# Altium footprint library PCB1.PcbLib: 43 footprints (part 1 of 3)
Each footprint in its own frame and in the unit in brackets; x right, y up, seen from the top. Pads: shape width x height; smd on the part's side, far side on the other; paste and mask are expansions set on the pad; w line width, h text height; cw(c..) or ccw(c..) is an arc to the next point about the centre after c.
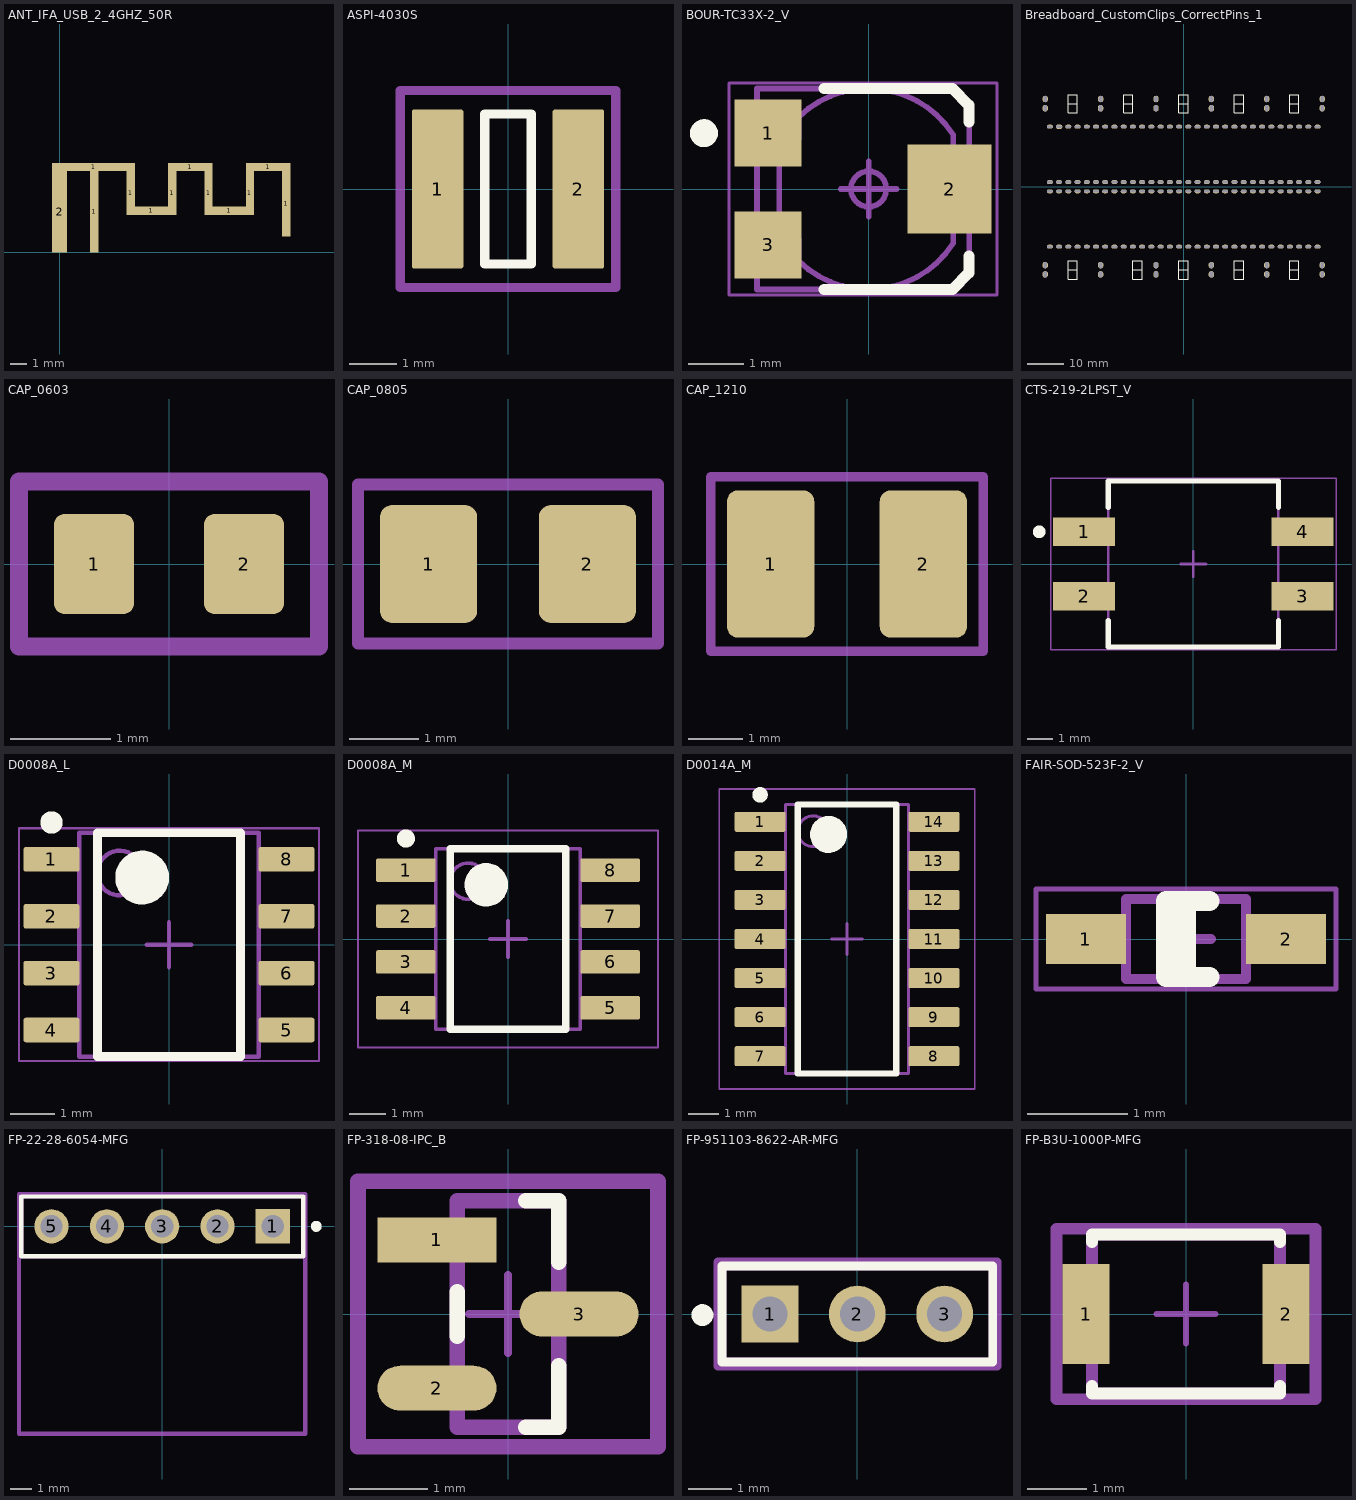
[diagram p0: the footprints below, top view; thin cyan lines are the x and y axes]

## ANT_IFA_USB_2_4GHZ_50R [mm]
pads (12):
  rect 5x0.5 smd paste+0 mask+0.102: 1(2.05,5.15)
  rect 0.5x4.9 smd paste+0 mask+0.102: 1(2.1,2.45)
  rect 0.5x2.64 smd paste+0 mask+0.102: 1(4.3,3.58) 1(6.8,3.58) 1(9,3.58) 1(11.5,3.58)
  rect 2x0.5 smd paste+0 mask+0.102: 1(5.55,2.51) 1(10.25,2.51)
  rect 2.7x0.5 smd paste+0 mask+0.102: 1(7.9,5.15) 1(12.6,5.15)
  rect 0.5x3.94 smd paste+0 mask+0.102: 1(13.7,2.93)
  rect 0.9x4.9 smd paste+0 mask+0.102: 2(0,2.45)

## ASPI-4030S [mm]
pads (2):
  rrect10% 1.1x3.4 smd: 1(-1.5,0) 2(1.5,0)
Top Overlay:
  lines w0.2: -0.5,-1.6 0.5,-1.6 0.5,1.6 -0.5,1.6 -0.5,-1.6
Mechanical 13:
  lines w0.2: -2.3,-2.1 0,-2.1 2.3,-2.1 2.3,2.1 -2.3,2.1 -2.3,-2.1
  text ".Designator" at -4.998,-0.333 h1
3D body "ASPI-4030S.STEP": height 3.01, standoff 0.01, extent -2,-2 2,2

## BOUR-TC33X-2_V [mm] "SMD, 3-Leads, Body 3.8x3.6mm"
height 1.2
pads (3):
  rect 1.2x1.2 smd: 1(-1.8,1) 3(-1.8,-1)
  rect 1.5x1.6 smd: 2(1.45,0)
Top Overlay:
  circle w0.25: c-2.95,1 r0.125
  lines w0.2: -0.8,-1.8 1.5,-1.8 1.8,-1.5 1.8,-1.2 ; -0.8,1.8 1.5,1.8 1.8,1.5 1.8,1.2
Mechanical 13:
  lines w0.1: 1.515,-0.73 1.95,-0.73 1.95,-0.425 1.8,-0.425 ; 1.515,0.73 1.95,0.73 1.95,0.425 1.8,0.425 ; 1.8,-0.75 1.8,-1.5 1.5,-1.8 -2,-1.8 -2,1.8 1.5,1.8 1.8,1.5 1.8,0.75 ; 1.8,-0.42 1.8,0.42 ; -1.6,-0.895 -1.25,-0.895 -1.25,-1.295 ccw(c0,0) 1.515,-0.972 1.515,-0.352 ccw(c1.16,0) 1.515,0.352 1.515,0.972 ccw(c0,0) -1.25,1.295 -1.25,0.895 -1.6,0.895 -1.6,-0.895 ; 0,-0.318 cw(c0,0) 0,0.317 cw(c0,0) 0,-0.318
Mechanical 15:
  lines w0.05: -2.5,-1.9 2.3,-1.9 2.3,1.9 -2.5,1.9 -2.5,-1.9
  lines w0.1: -0.5,0 0.5,0 ; 0,-0.5 0,0.5
3D body "BOUR-TC33X-2.stp": height 1.15, standoff 0, extent -2,-1.8 1.963,1.8

## Breadboard_CustomClips_CorrectPins_1 [mm]
pads (144):
  rrect100% 1.65x1.1 hole 0.65 slot 1.45 at 0 deg: 1(-36.83,1.27) 1(-36.83,16.51) 2(-34.29,1.27) 3(-31.75,1.27) 3(-31.75,16.51) 4(-29.21,1.27) 4(-29.21,16.51) 5(-26.67,1.27) 5(-26.67,16.51) 6(-24.13,1.27) 6(-24.13,16.51) 7(-21.59,1.27) 7(-21.59,16.51) 8(-19.05,1.27) 8(-19.05,16.51) 9(-16.51,1.27) 9(-16.51,16.51) 10(-13.97,1.27) 10(-13.97,16.51) 11(-11.43,1.27) 11(-11.43,16.51) 12(-8.89,1.27) 12(-8.89,16.51) 13(-6.35,1.27) 13(-6.35,16.51) 14(-3.81,1.27) 14(-3.81,16.51) 15(-1.27,1.27) 15(-1.27,16.51) 16(1.27,1.27) 16(1.27,16.51) 17(3.81,1.27) 17(3.81,16.51) 18(6.35,1.27) 18(6.35,16.51) 19(8.89,1.27) 19(8.89,16.51) 20(11.43,1.27) 20(11.43,16.51) 21(13.97,1.27) 21(13.97,16.51) 22(16.51,1.27) 22(16.51,16.51) 23(19.05,1.27) 23(19.05,16.51) 24(21.59,1.27) 24(21.59,16.51) 25(24.13,1.27) 25(24.13,16.51) 26(26.67,1.27) 26(26.67,16.51) 27(29.21,1.27) 27(29.21,16.51) 28(31.75,1.27) 28(31.75,16.51) 29(34.29,1.27) 29(34.29,16.51) 30(36.83,1.27) 30(36.83,16.51) 31(-36.83,-16.51) 31(-36.83,-1.27) 32(-34.29,-16.51) 32(-34.29,-1.27) 33(-31.75,-16.51) 33(-31.75,-1.27) 34(-29.21,-16.51) 34(-29.21,-1.27) 35(-26.67,-16.51) 35(-26.67,-1.27) 36(-24.13,-16.51) 36(-24.13,-1.27) 37(-21.59,-16.51) 37(-21.59,-1.27) 38(-19.05,-16.51) 38(-19.05,-1.27) 39(-16.51,-16.51) 39(-16.51,-1.27) 40(-13.97,-16.51) 40(-13.97,-1.27) 41(-11.43,-16.51) 41(-11.43,-1.27) 42(-8.89,-16.51) 42(-8.89,-1.27) 43(-6.35,-16.51) 43(-6.35,-1.27) 44(-3.81,-16.51) 44(-3.81,-1.27) 45(-1.27,-16.51) 45(-1.27,-1.27) 46(1.27,-16.51) 46(1.27,-1.27) 47(3.81,-16.51) 47(3.81,-1.27) 48(6.35,-16.51) 48(6.35,-1.27) 49(8.89,-16.51) 49(8.89,-1.27) 50(11.43,-16.51) 50(11.43,-1.27) 51(13.97,-16.51) 51(13.97,-1.27) 52(16.51,-16.51) 52(16.51,-1.27) 53(19.05,-16.51) 53(19.05,-1.27) 54(21.59,-16.51) 54(21.59,-1.27) 55(24.13,-16.51) 55(24.13,-1.27) 56(26.67,-16.51) 56(26.67,-1.27) 57(29.21,-16.51) 57(29.21,-1.27) 58(31.75,-16.51) 58(31.75,-1.27) 59(34.29,-16.51) 59(34.29,-1.27) 60(36.83,-16.51) 60(36.83,-1.27)
  rrect100% 1.8x1.2 hole 0.6 slot 1.5 at 0 deg: 2(-34.29,16.51)
  rrect100% 1.5x1.8 hole 1.6 slot 0.9 at 0 deg: 61(-38.1,24.13) 61(-22.86,24.13) 61(-7.62,24.13) 61(7.62,24.13) 61(22.86,24.13) 61(38.1,24.13) 62(-38.1,21.59) 62(-22.86,21.59) 62(-7.62,21.59) 62(7.62,21.59) 62(22.86,21.59) 62(38.1,21.59) 63(-38.1,-21.59) 63(-22.86,-21.59) 63(-7.62,-21.603) 63(7.62,-21.59) 63(22.86,-21.59) 63(38.1,-21.59) 64(-38.1,-24.13) 64(-22.86,-24.13) 64(-7.62,-24.13) 64(7.62,-24.13) 64(22.86,-24.13) 64(38.1,-24.13)
Top Overlay:
  lines w0.254: -31.776,-22.895 -29.236,-22.895 ; -31.776,-22.895 -31.776,-25.435 -29.236,-25.435 -29.236,-22.895 ; -31.776,-22.895 -29.236,-22.895 ; -31.776,-22.895 -31.776,-20.355 -29.236,-20.355 -29.236,-22.895 ; -31.776,22.825 -29.236,22.825 ; -31.776,22.825 -31.776,20.285 -29.236,20.285 -29.236,22.825 ; -31.776,22.825 -29.236,22.825 ; -31.776,22.825 -31.776,25.365 -29.236,25.365 -29.236,22.825 ; -16.536,22.825 -13.996,22.825 ; -16.536,22.825 -16.536,25.365 -13.996,25.365 -13.996,22.825 ; -16.536,22.825 -13.996,22.825 ; -16.536,22.825 -16.536,20.285 -13.996,20.285 -13.996,22.825 ; -13.996,-22.895 -11.456,-22.895 ; -13.996,-22.895 -13.996,-25.435 -11.456,-25.435 -11.456,-22.895 ; -13.996,-22.895 -11.456,-22.895 ; -13.996,-22.895 -13.996,-20.355 -11.456,-20.355 -11.456,-22.895 ; -1.296,-22.895 1.244,-22.895 ; -1.296,-22.895 -1.296,-25.435 1.244,-25.435 1.244,-22.895 ; -1.296,-22.895 1.244,-22.895 ; -1.296,-22.895 -1.296,-20.355 1.244,-20.355 1.244,-22.895 ; -1.296,22.825 1.244,22.825 ; -1.296,22.825 -1.296,20.285 1.244,20.285 1.244,22.825 ; -1.296,22.825 1.244,22.825 ; -1.296,22.825 -1.296,25.365 1.244,25.365 1.244,22.825 ; 13.944,-22.895 16.484,-22.895 ; 13.944,-22.895 13.944,-20.355 16.484,-20.355 16.484,-22.895 ; 13.944,-22.895 16.484,-22.895 ; 13.944,-22.895 13.944,-25.435 16.484,-25.435 16.484,-22.895 ; 13.944,22.825 16.484,22.825 ; 13.944,22.825 13.944,25.365 16.484,25.365 16.484,22.825 ; 13.944,22.825 16.484,22.825 ; 13.944,22.825 13.944,20.285 16.484,20.285 16.484,22.825 ; 29.184,-22.895 31.724,-22.895 ; 29.184,-22.895 29.184,-25.435 31.724,-25.435 31.724,-22.895 ; 29.184,-22.895 31.724,-22.895 ; 29.184,-22.895 29.184,-20.355 31.724,-20.355 31.724,-22.895 ; 29.184,22.825 31.724,22.825 ; 29.184,22.825 29.184,25.365 31.724,25.365 31.724,22.825 ; 29.184,22.825 31.724,22.825 ; 29.184,22.825 29.184,20.285 31.724,20.285 31.724,22.825
Multi-Layer:
  lines w0.254: -40.64,-27.94 41.91,-27.94 41.91,26.67 -40.64,26.67 -40.64,-27.94

## CAP_0603 [mm]
pads (2):
  rrect25% 0.8x1 smd: 1(-0.75,0) 2(0.75,0)
Mechanical 13:
  lines w0.175: -1.5,-0.825 1.5,-0.825 1.5,0.825 -1.5,0.825 -1.5,-0.825
3D body "C0603.step": height 0.51, standoff 0.01, extent -0.8,-0.4 0.8,0.4

## CAP_0805 [mm]
pads (2):
  rrect25% 1.4x1.7 smd: 1(-1.143,0) 2(1.143,0)
Mechanical 13:
  lines w0.175: -2.159,-1.143 -2.159,1.143 2.159,1.143 2.159,-1.143 -2.159,-1.143
  text "'.Designator'" at -5.665,-0.417 h1
3D body "C0805.stp": height 1.01, standoff 0.01, extent -1.15,-0.762 1.15,0.788

## CAP_1210 [mm]
height 1.35
pads (2):
  rrect25% 1.6x2.7 smd: 1(-1.4,0) 2(1.4,0)
Mechanical 13:
  lines w0.175: -2.5,-1.6 2.5,-1.6 2.5,1.6 -2.5,1.6 -2.5,-1.6
  text "'.Designator'" at -5.665,-0.417 h1
3D body "C1210.step": height 2.5, standoff 0, extent -1.6,-1.25 1.6,1.25

## CTS-219-2LPST_V [mil] "SMD, 4-Leads, Body 6.706x6.553mm, Pitch 2.54mm"
height 163.39
pads (4):
  rect 96x44 smd: 1(-169.5,50) 2(-169.5,-50) 3(169.5,-50) 4(169.5,50)
Top Overlay:
  circle w9.84: c-239.13,50 r4.92
  lines w7.87: -132,-87.76 -132,-129 132,-129 132,-87.76 ; -132,87.76 -132,129 132,129 132,87.76
Mechanical 13:
  lines w3.94: -132,-129 132,-129 132,129 -132,129 -132,-129
Mechanical 15:
  lines w1.97: -221.42,-132.95 -221.42,132.95 221.42,132.95 221.42,-132.95 -221.42,-132.95
  lines w3.94: -19.68,0 19.68,0 ; 0,-19.68 0,19.68
3D body: height 163.39, standoff 5.91, extent -131.98,-128.98 131.98,128.98

## D0008A_L [mm] "SOIC, 8-Leads, Body 5x4mm, Pitch 1.27mm, IPC High Density"
height 1.75
pads (8):
  rrect18% 1.25x0.55 smd: 1(-2.625,1.905) 2(-2.625,0.635) 3(-2.625,-0.635) 4(-2.625,-1.905) 5(2.625,-1.905) 6(2.625,-0.635) 7(2.625,0.635) 8(2.625,1.905)
Top Overlay:
  circle w0.25: c-2.625,2.73 r0.125
  circle w0.6: c-0.6,1.5 r0.3
  lines w0.2: -1.6,-2.5 -1.6,2.5 1.6,2.5 1.6,-2.5 -1.6,-2.5
Mechanical 1:
  text ".Designator" at -1.397,-0.254 h0.6
Mechanical 13:
  circle w0.1: c-1.1,1.6 r0.5
  lines w0.1: -2,-2.5 -2,2.5 2,2.5 2,-2.5 -2,-2.5
Mechanical 15:
  lines w0.05: -3.35,-2.6 -3.35,2.6 3.35,2.6 3.35,-2.6 -3.35,-2.6
  lines w0.1: -0.5,0 0.5,0 ; 0,-0.5 0,0.5
3D body "SOIC-8akaD0008AakaM08A.stp": height 1.63, standoff 0, extent -3,-2.45 3,2.45

## D0008A_M [mm] "SOIC, 8-Leads, Body 5x4mm, Pitch 1.27mm, IPC Low Density"
height 1.75
pads (8):
  rrect15% 1.65x0.65 smd: 1(-2.825,1.905) 2(-2.825,0.635) 3(-2.825,-0.635) 4(-2.825,-1.905) 5(2.825,-1.905) 6(2.825,-0.635) 7(2.825,0.635) 8(2.825,1.905)
Top Overlay:
  circle w0.25: c-2.825,2.78 r0.125
  circle w0.6: c-0.6,1.5 r0.3
  lines w0.2: -1.6,-2.5 -1.6,2.5 1.6,2.5 1.6,-2.5 -1.6,-2.5
Mechanical 1:
  text ".Designator" at -1.397,-0.254 h0.6
Mechanical 13:
  circle w0.1: c-1.1,1.6 r0.5
  lines w0.1: -2,-2.5 -2,2.5 2,2.5 2,-2.5 -2,-2.5
Mechanical 15:
  lines w0.05: -4.15,-3 -4.15,3 4.15,3 4.15,-3 -4.15,-3
  lines w0.1: -0.5,0 0.5,0 ; 0,-0.5 0,0.5
3D body "SOIC-8akaD0008AakaM08A.stp": height 1.63, standoff 0, extent -3,-2.45 3,2.45

## D0014A_M [mm] "SOIC, 14-Leads, Body 8.75x4mm, Pitch 1.27mm, IPC Low Density"
height 1.75
pads (14):
  rrect15% 1.65x0.65 smd: 1(-2.825,3.81) 2(-2.825,2.54) 3(-2.825,1.27) 4(-2.825,0) 5(-2.825,-1.27) 6(-2.825,-2.54) 7(-2.825,-3.81) 8(2.825,-3.81) 9(2.825,-2.54) 10(2.825,-1.27) 11(2.825,0) 12(2.825,1.27) 13(2.825,2.54) 14(2.825,3.81)
Top Overlay:
  circle w0.25: c-2.825,4.685 r0.125
  circle w0.6: c-0.6,3.4 r0.3
  lines w0.2: -1.6,-4.375 -1.6,4.375 1.6,4.375 1.6,-4.375 -1.6,-4.375
Mechanical 1:
  text ".Designator" at -1.575,-0.325 h0.8
Mechanical 13:
  circle w0.1: c-1.1,3.5 r0.5
  lines w0.1: -2,-4.375 -2,4.375 2,4.375 2,-4.375 -2,-4.375
Mechanical 15:
  lines w0.05: -4.15,-4.875 -4.15,4.875 4.15,4.875 4.15,-4.875 -4.15,-4.875
  lines w0.1: -0.5,0 0.5,0 ; 0,-0.5 0,0.5
3D body "SOIC-14akaD0014AakaM14A.stp": height 1.59, standoff -0.01, extent -3.023,-4.318 3.022,4.318

## FAIR-SOD-523F-2_V [mm] "SMD, 2-Leads, Body 1.2x0.8mm, Height 0.7mm"
height 0.7
pads (2):
  rect 0.8x0.5 smd: 1(-1,0) 2(1,0)
Top Overlay:
  lines w0.2: 0,-0.381 0,0.381 ; 0.236,-0.381 -0.2,-0.381 -0.2,0.381 0.236,0.381
Mechanical 13:
  lines w0.1: -0.6,-0.4 0.6,-0.4 0.6,0.4 -0.6,0.4 -0.6,-0.4
Mechanical 15:
  lines w0.05: -1.5,-0.5 1.5,-0.5 1.5,0.5 -1.5,0.5 -1.5,-0.5
  lines w0.1: -0.25,0 0.25,0 ; 0,-0.25 0,0.25
3D body: height 0.71, standoff 0.01, extent -0.6,-0.4 0.6,0.4

## FP-22-28-6054-MFG [mm]
pads (5):
  rect 1.57x1.57 hole 1.02 paste-2539.97 mask+0: 1(5.08,0)
  round 1.57 hole 1.02 paste-2539.97 mask+0: 2(2.54,0) 3(0,0) 4(-2.54,0) 5(-5.08,0)
Top Overlay:
  circle w0.25: c7.075,0 r0.125
  lines w0.2: -6.475,-1.37 6.475,-1.37 6.475,1.37 -6.475,1.37 -6.475,-1.37
Top 3D Body:
  lines w0.2: -6.475,-1.37 6.475,-1.37 6.475,1.37 -6.475,1.37 -6.475,-1.37
Top Courtyard:
  lines w0.2: -6.575,-9.52 6.575,-9.52 6.575,1.47 -6.575,1.47 -6.575,-9.52
Top Assembly:
  lines w0.2: -6.575,-9.52 6.575,-9.52 6.575,1.47 -6.575,1.47 -6.575,-9.52
  text ".Designator" at 0,-3.837 h1
Top Component Center:
  lines w0.1: -0.5,0 0.5,0 ; 0,-0.5 0,0.5
3D body "Conn_Molex_22-28-6054_eec.STEP": height 0.25, standoff 0, extent -6.575,-9.52 6.575,1.47

## FP-318-08-IPC_B [mm]
pads (3):
  rect 1.524x0.578 smd paste+0 mask+0: 1(-0.91,0.95)
  rrect100% 1.524x0.578 smd paste+0 mask+0: 2(-0.91,-0.95) 3(0.91,0)
Top Overlay:
  lines w0.2: -0.65,-0.286 -0.65,0.286 ; 0.227,-1.45 0.65,-1.45 0.65,-0.664 ; 0.227,1.45 0.65,1.45 0.65,0.664
Top 3D Body:
  lines w0.2: -0.65,-1.45 0.65,-1.45 0.65,1.45 -0.65,1.45 -0.65,-1.45
Top Courtyard:
  lines w0.2: -1.922,-1.7 1.922,-1.7 1.922,1.7 -1.922,1.7 -1.922,-1.7
Top Assembly:
  lines w0.2: -1.922,-1.7 1.922,-1.7 1.922,1.7 -1.922,1.7 -1.922,-1.7
  text ".Designator" at 0,-0.001 h1
Top Component Center:
  lines w0.1: -0.5,0 0.5,0 ; 0,-0.5 0,0.5
3D body "IC_ON_Semiconductor_NUD3112LT1G_eec.STEP": height 0.25, standoff 0, extent -1.922,-1.7 1.922,1.7

## FP-951103-8622-AR-MFG [mm]
pads (3):
  rect 1.3x1.3 hole 0.8 paste-2539.97 mask+0: 1(-2,0)
  round 1.3 hole 0.8 paste-2539.97 mask+0: 2(0,0) 3(2,0)
Top Overlay:
  circle w0.25: c-3.55,-0.025 r0.125
  lines w0.2: -3.1,-1.1 3.1,-1.1 3.1,1.1 -3.1,1.1 -3.1,-1.1
Top 3D Body:
  lines w0.2: -3.1,-1.1 3.1,-1.1 3.1,1.1 -3.1,1.1 -3.1,-1.1
Top Courtyard:
  lines w0.2: -3.2,-1.2 3.2,-1.2 3.2,1.2 -3.2,1.2 -3.2,-1.2
Top Assembly:
  lines w0.2: -3.2,-1.2 3.2,-1.2 3.2,1.2 -3.2,1.2 -3.2,-1.2
  text ".Designator" at 0,-0.001 h1
Top Component Center:
  lines w0.1: -0.5,0 0.5,0 ; 0,-0.5 0,0.5
3D body "Conn_3M_951103-8622-AR_eec.STEP": height 0.25, standoff 0, extent -3.2,-1.2 3.2,1.2

## FP-B3U-1000P-MFG [mm]
pads (2):
  rect 0.8x1.7 smd paste+0 mask+0: 1(-1.7,0) 2(1.7,0)
Top Overlay:
  lines w0.2: -1.6,-1.225 -1.6,-1.35 1.6,-1.35 1.6,-1.225 ; -1.6,1.225 -1.6,1.35 1.6,1.35 1.6,1.225
Top 3D Body:
  lines w0.2: -1.6,-1.35 1.6,-1.35 1.6,1.35 -1.6,1.35 -1.6,-1.35
Top Courtyard:
  lines w0.2: -2.2,-1.45 2.2,-1.45 2.2,1.45 -2.2,1.45 -2.2,-1.45
Top Assembly:
  lines w0.2: -2.2,-1.45 2.2,-1.45 2.2,1.45 -2.2,1.45 -2.2,-1.45
  text ".Designator" at 0,0.188 h1
Top Component Center:
  lines w0.1: -0.5,0 0.5,0 ; 0,-0.5 0,0.5
3D body "Switch_Omron_B3U-1000P_eec.STEP": height 0.25, standoff 0, extent -2.2,-1.45 2.2,1.45